# Altium integrated library SHF-105-01-X-D-SM--Symbol-Altium-44987.IntLib: 1 symbol
Pins are listed as number, name and electrical type; pins without a type are passive.

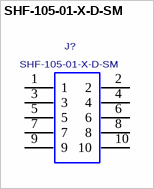
[diagram p0: symbol SHF-105-01-X-D-SM]

## SHF-105-01-X-D-SM
designator J?
0.05"X0.05" SHROUDED TERMINAL STRIP, 10 PINS.; MANUFACTURER: SAMTEC; CREATED: February 17, 2015 - Wendy Xin; PCB DECAL: SHF-105-01-X-D-SM
footprint SHF-105-01-X-D-SM
pins: 1, 2, 3, 4, 5, 6, 7, 8, 9, 10